# Altium footprint library PcbLib.PcbLib: 45 footprints (part 3 of 3)
Each footprint in its own frame and in the unit in brackets; x right, y up, seen from the top. Pads: shape width x height; smd on the part's side, far side on the other; paste and mask are expansions set on the pad; w line width, h text height; cw(c..) or ccw(c..) is an arc to the next point about the centre after c.
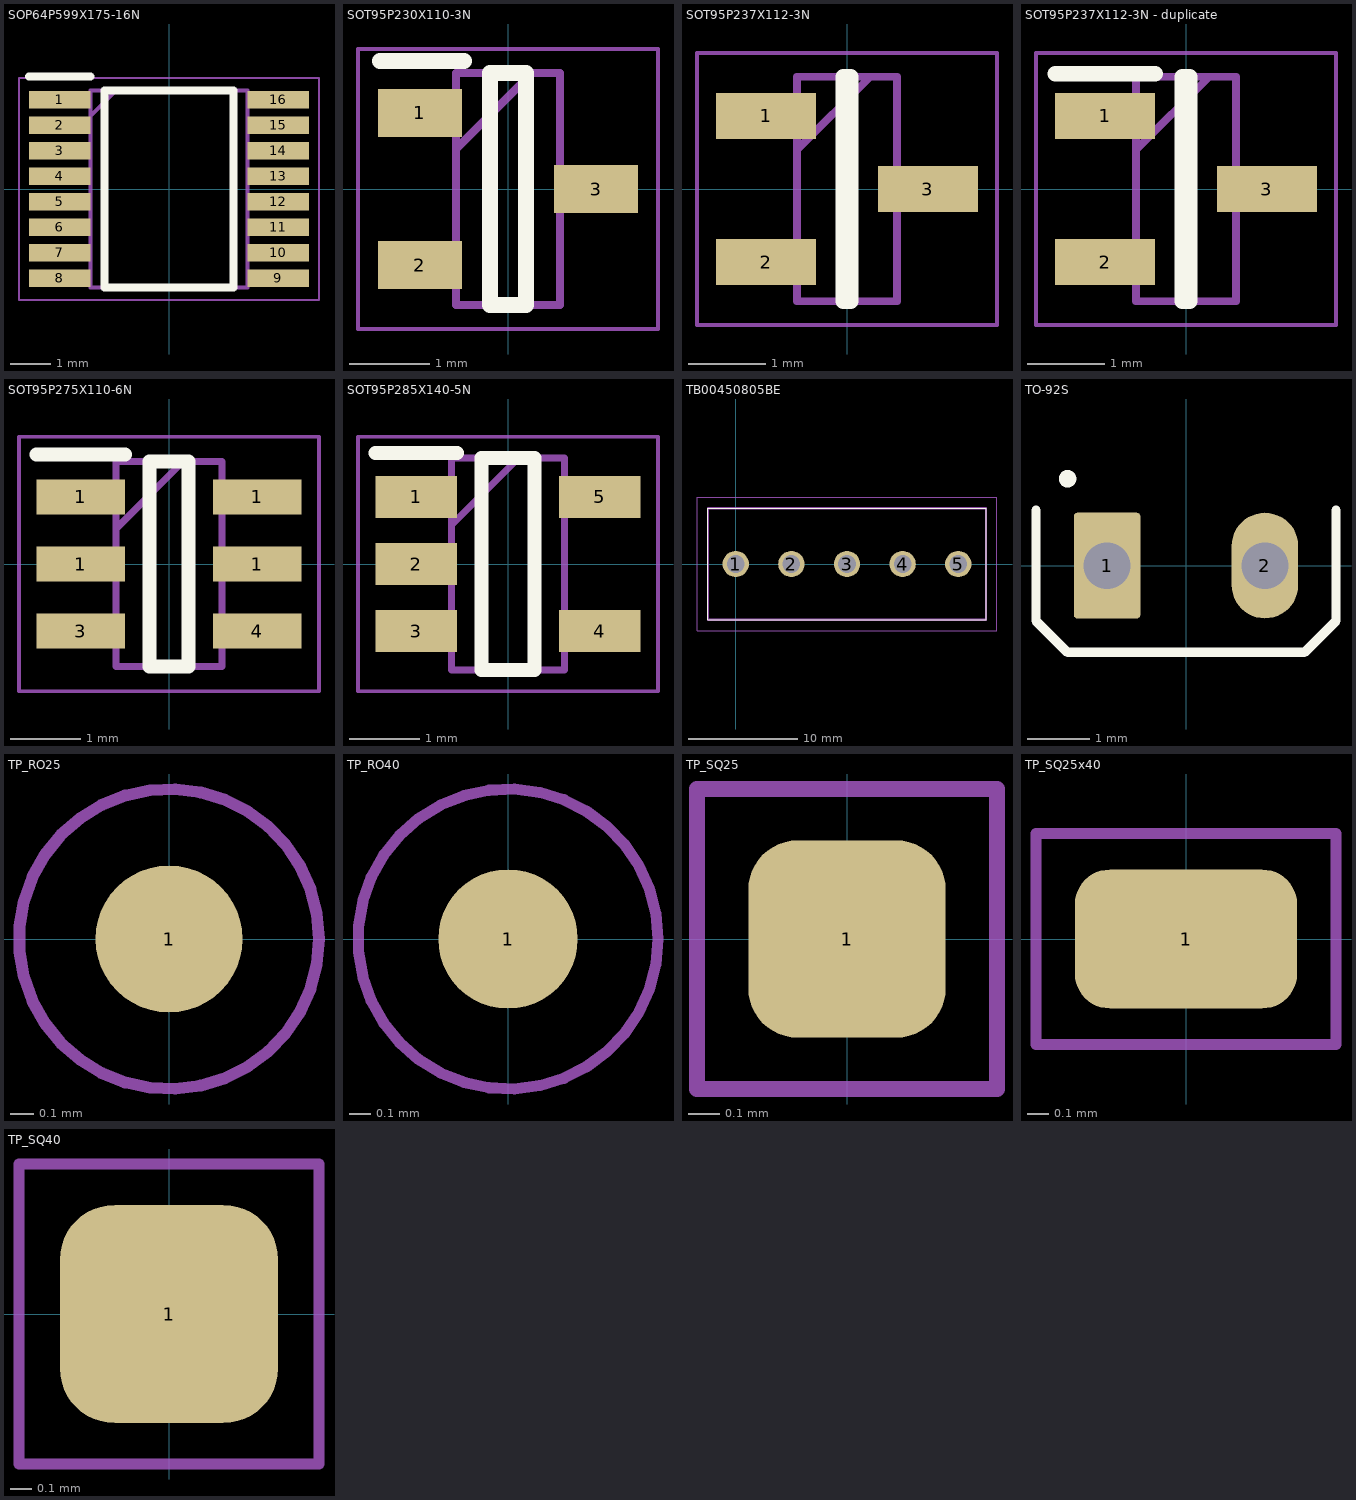
[diagram p2: the footprints below, top view; thin cyan lines are the x and y axes]

## SOP64P599X175-16N [mm]
pads (16):
  rect 1.526x0.435 smd: 1(-2.712,2.222) 2(-2.712,1.588) 3(-2.712,0.952) 4(-2.712,0.318) 5(-2.712,-0.318) 6(-2.712,-0.952) 7(-2.712,-1.588) 8(-2.712,-2.222) 9(2.712,-2.222) 10(2.712,-1.588) 11(2.712,-0.952) 12(2.712,-0.318) 13(2.712,0.318) 14(2.712,0.952) 15(2.712,1.588) 16(2.712,2.222)
Top Overlay:
  lines w0.2: -3.475,2.79 -1.95,2.79 ; -1.6,-2.451 -1.6,2.451 1.6,2.451 1.6,-2.451 -1.6,-2.451
Mechanical 13:
  lines w0.1: -1.95,1.816 -1.314,2.451 ; -1.95,-2.451 -1.95,2.451 1.95,2.451 1.95,-2.451 -1.95,-2.451
Mechanical 15:
  lines w0.05: -3.725,-2.752 -3.725,2.752 3.725,2.752 3.725,-2.752 -3.725,-2.752
3D body "FT230XS-R.stp": height 1.75, standoff 0, extent -2.997,-2.451 2.997,2.451

## SOT95P230X110-3N [mm]
pads (3):
  rect 1.05x0.6 smd: 1(-1.1,0.95) 2(-1.1,-0.95) 3(1.1,0)
Top Overlay:
  lines w0.2: -1.6,1.6 -0.55,1.6 ; -0.225,-1.45 -0.225,1.45 0.225,1.45 0.225,-1.45 -0.225,-1.45
Mechanical 13:
  lines w0.1: -0.65,0.5 0.3,1.45 ; -0.65,-1.45 -0.65,1.45 0.65,1.45 0.65,-1.45 -0.65,-1.45
Mechanical 15:
  lines w0.05: -1.875,-1.75 -1.875,1.75 1.875,1.75 1.875,-1.75 -1.875,-1.75
3D body "MMBT3904VL.stp": height 1.1, standoff 0, extent -1.15,-1.45 1.15,1.45

## SOT95P237X112-3N [mm]
pads (3):
  rect 1.3x0.6 smd: 1(-1.05,0.95) 2(-1.05,-0.95) 3(1.05,0)
Top Overlay:
  lines w0.2: -0.05,-1.46 0.05,-1.46 0.05,1.46 -0.05,1.46 -0.05,-1.46
Mechanical 13:
  lines w0.1: -0.65,0.51 0.3,1.46 ; -0.65,-1.46 0.65,-1.46 0.65,1.46 -0.65,1.46 -0.65,-1.46
Mechanical 15:
  lines w0.05: -1.95,-1.77 1.95,-1.77 1.95,1.77 -1.95,1.77 -1.95,-1.77
3D body "SI2323CDS-T1-GE3.stp": height 1.12, standoff 0, extent -1.185,-1.46 1.185,1.46

## SOT95P237X112-3N - duplicate [mm]
pads (3):
  rect 1.3x0.6 smd: 1(-1.05,0.95) 2(-1.05,-0.95) 3(1.05,0)
Top Overlay:
  lines w0.2: -1.7,1.5 -0.4,1.5 ; -0.05,-1.46 -0.05,1.46 0.05,1.46 0.05,-1.46 -0.05,-1.46
Mechanical 13:
  lines w0.1: -0.65,0.51 0.3,1.46 ; -0.65,-1.46 -0.65,1.46 0.65,1.46 0.65,-1.46 -0.65,-1.46
Mechanical 15:
  lines w0.05: -1.95,-1.77 -1.95,1.77 1.95,1.77 1.95,-1.77 -1.95,-1.77
3D body "SI2323CDS-T1-GE3.stp": height 1.12, standoff 0, extent -1.185,-1.46 1.185,1.46

## SOT95P275X110-6N [mm]
pads (6):
  rect 1.25x0.5 smd: 1(-1.25,0) 1(-1.25,0.95) 1(1.25,0) 1(1.25,0.95) 3(-1.25,-0.95) 4(1.25,-0.95)
Top Overlay:
  lines w0.2: -1.875,1.55 -0.625,1.55 ; -0.275,-1.45 0.275,-1.45 0.275,1.45 -0.275,1.45 -0.275,-1.45
Mechanical 13:
  lines w0.1: -0.75,0.5 0.2,1.45 ; -0.75,-1.45 0.75,-1.45 0.75,1.45 -0.75,1.45 -0.75,-1.45
Mechanical 15:
  lines w0.05: -2.125,-1.8 2.125,-1.8 2.125,1.8 -2.125,1.8 -2.125,-1.8
3D body "PMN30UNX.stp": height 1.01, standoff 0, extent -1.373,-1.474 1.377,1.476

## SOT95P285X140-5N [mm]
pads (5):
  rect 1.15x0.6 smd: 1(-1.3,0.95) 2(-1.3,0) 3(-1.3,-0.95) 4(1.3,-0.95) 5(1.3,0.95)
Top Overlay:
  lines w0.2: -1.875,1.575 -0.725,1.575 ; -0.375,-1.5 0.375,-1.5 0.375,1.5 -0.375,1.5 -0.375,-1.5
Mechanical 13:
  lines w0.1: -0.8,0.55 0.15,1.5 ; -0.8,-1.5 0.8,-1.5 0.8,1.5 -0.8,1.5 -0.8,-1.5
Mechanical 15:
  lines w0.05: -2.125,-1.8 2.125,-1.8 2.125,1.8 -2.125,1.8 -2.125,-1.8
3D body "AP7370-33WW-7.stp": height 1.4, standoff 0, extent -1.425,-1.5 1.425,1.5

## TB00450805BE [mm]
pads (5):
  round 2.4 hole 1.6: 1(0,0) 2(5.08,0) 3(10.16,0) 4(15.24,0) 5(20.32,0)
Top Overlay:
  lines w0.1: -2.54,-5.08 22.86,-5.08 22.86,5.08 -2.54,5.08 -2.54,-5.08
Mechanical 13:
  lines w0.2: -2.54,-5.1 22.86,-5.1 22.86,5.1 -2.54,5.1 -2.54,-5.1
Mechanical 15:
  lines w0.1: -3.54,-6.1 23.86,-6.1 23.86,6.1 -3.54,6.1 -3.54,-6.1
3D body "CUI_DEVICES_TB004-508-P05BE.step": height 14.1, standoff -3.5, extent -3.094,-5.12 22.906,5.08

## TO-92S [mm] "TI 2 Pin temp sensor"
pads (2):
  rrect10% 1.07x1.7 hole 0.75: 1(-1.27,0)
  rrect100% 1.07x1.7 hole 0.75: 2(1.27,0)
Top Overlay:
  circle w0.178: c-1.905,1.397 r0.051
  lines w0.152: -2.413,0.889 -2.413,-0.889 -1.905,-1.397 1.905,-1.397 2.413,-0.889 2.413,0.889
3D body "User Library-TI_LPG0002A_TO-92_Temp_Sensor.sldprt": height 7.33, standoff -0.76, extent -2.05,-1.07 2.05,0.55

## TP_RO25 [mm] "Testpoint round 25mil"
pads (1):
  round 0.635 smd: 1(0,0)
Mechanical 15:
  circle w0.051: c0,0 r0.648

## TP_RO40 [mm] "Testpoint round 40mil"
pads (1):
  round 0.635 smd: 1(0,0)
Mechanical 15:
  circle w0.051: c0,0 r0.684

## TP_SQ25 [mm] "Testpoint square 25x25mil"
pads (1):
  rrect50% 0.635x0.635 smd: 1(0,0)
Mechanical 15:
  lines w0.051: -0.483,-0.483 0.483,-0.483 0.483,0.483 -0.483,0.483 -0.483,-0.483

## TP_SQ25x40 [mil] "Testpoint square 25x40mil"
pads (1):
  rrect50% 40x25 smd: 1(0,0)
Mechanical 15:
  lines w2: -27,-19 27,-19 27,19 -27,19 -27,-19

## TP_SQ40 [mil] "Testpoint square 40x40mil"
pads (1):
  rrect50% 40x40 smd: 1(0,0)
Mechanical 15:
  lines w2: -27.5,-27.5 27.5,-27.5 27.5,27.5 -27.5,27.5 -27.5,-27.5